# Altium schematic symbol library 32EP16.SchLib: 2 symbols
Pins are listed as number, name and electrical type; pins without a type are passive.

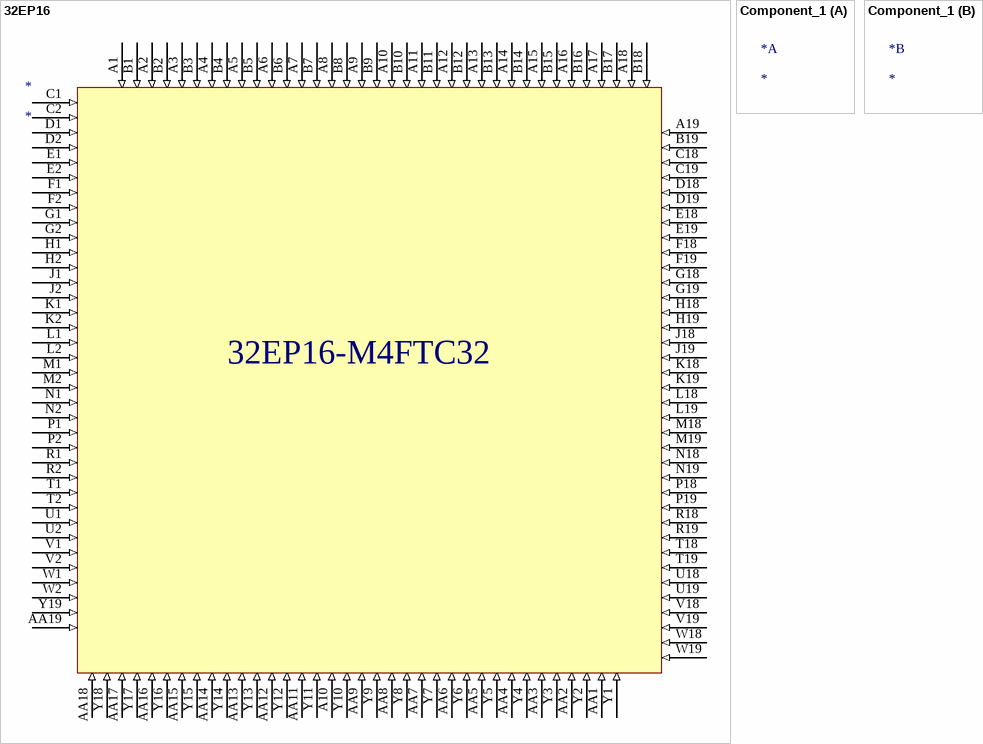
[diagram p0: symbols 32EP16 to Component_1]

## 32EP16
designator *
pins: A1 (in), A2 (in), A3 (in), A4 (in), A5 (in), A6 (in), A7 (in), A8 (in), A9 (in), A10 (in), A10 (in), A11 (in), A12 (in), A13 (in), A14 (in), A15 (in), A16 (in), A17 (in), A18 (in), A19 (in), AA1 (in), AA2 (in), AA3 (in), AA4 (in), AA5 (in), AA6 (in), AA7 (in), AA8 (in), AA9 (in), AA11 (in), AA12 (in), AA13 (in), AA14 (in), AA15 (in), AA16 (in), AA17 (in), AA18 (in), AA19 (in), B1 (in), B2 (in), B3 (in), B4 (in), B5 (in), B6 (in), B7 (in), B8 (in), B9 (in), B10 (in), B11 (in), B12 (in), B13 (in), B14 (in), B15 (in), B16 (in), B17 (in), B18 (in), B19 (in), C1 (in), C2 (in), C18 (in), C19 (in), D1 (in), D2 (in), D18 (in), D19 (in), E1 (in), E2 (in), E18 (in), E19 (in), F1 (in), F2 (in), F18 (in), F19 (in), G1 (in), G2 (in), G18 (in), G19 (in), H1 (in), H2 (in), H18 (in), H19 (in), J1 (in), J2 (in), J18 (in), J19 (in), K1 (in), K2 (in), K18 (in), K19 (in), L1 (in), L2 (in), L18 (in), L19 (in), M1 (in), M2 (in), M18 (in), M19 (in), N1 (in), N2 (in), N18 (in), N19 (in), P1 (in), P2 (in), P18 (in), P19 (in), R1 (in), R2 (in), R18 (in), R19 (in), T1 (in), T2 (in), T18 (in), T19 (in), U1 (in), U2 (in), U18 (in), U19 (in), V1 (in), V2 (in), V18 (in), V19 (in), W1 (in), W2 (in), W18 (in), W19 (in), Y1 (in), Y2 (in), Y3 (in), Y4 (in), Y5 (in), Y6 (in), Y7 (in), Y8 (in), Y9 (in), Y10 (in), Y11 (in), Y12 (in), Y13 (in), Y14 (in), Y15 (in), Y16 (in), Y17 (in), Y18 (in), Y19 (in)
text: 32EP16-M4FTC32

## Component_1
designator *